# Altium footprint library TRANSFORMER.PcbLib: 2 footprints
Each footprint in its own frame and in the unit in brackets; x right, y up, seen from the top. Pads: shape width x height; smd on the part's side, far side on the other; paste and mask are expansions set on the pad; w line width, h text height; cw(c..) or ccw(c..) is an arc to the next point about the centre after c.
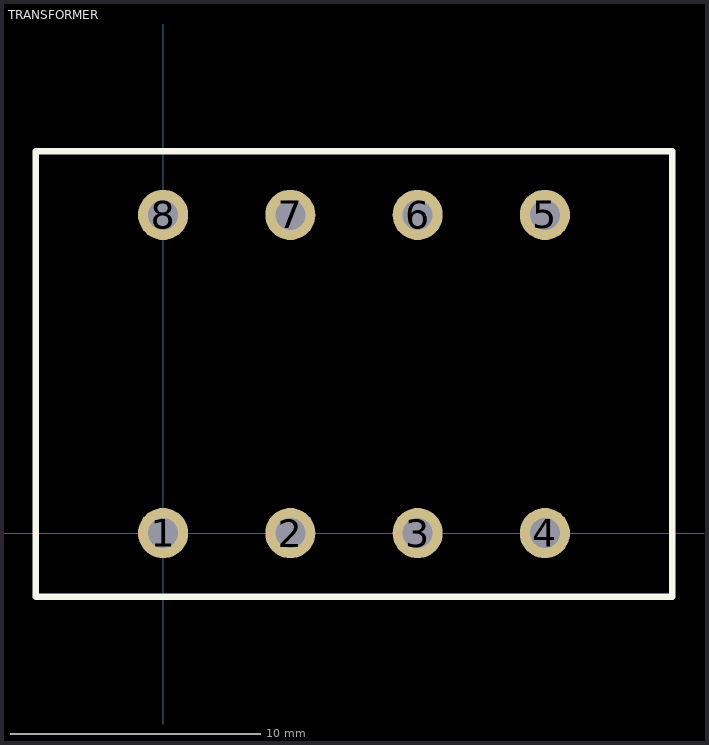
[diagram p0: the footprints below, top view; thin cyan lines are the x and y axes]

## PCBComponent_1 [mm]

## TRANSFORMER [mm]
pads (8):
  round 2 hole 1.2: 1(0,0) 2(5.08,0) 3(10.16,0) 4(15.24,0) 5(15.24,12.7) 6(10.16,12.7) 7(5.08,12.7) 8(0,12.7)
Top Overlay:
  lines w0.254: -5.08,-2.54 20.32,-2.54 20.32,15.24 -5.08,15.24 -5.08,-2.54